# EAGLE library part EPF10K100-IO1 (library mita-akiba)
EPF10K100ARC240 IO pin 6-56: 39 pins
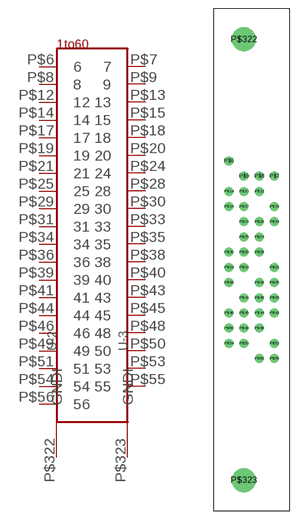
[diagram p13: symbol with the pads of EPF10K100A24IO1; footprint EPF10K100A24IO1]

Designator prefix -; gates -1=EPF10K100A-IO1 -2=GNDINT -3=GNDINT

## EPF10K100-IO1  [EPF10K100A24IO1]
P$6  -1:6
P$7  -1:7
P$8  -1:8
P$9  -1:9
P$12  -1:12
P$13  -1:13
P$14  -1:14
P$15  -1:15
P$17  -1:17
P$18  -1:18
P$19  -1:19
P$20  -1:20
P$21  -1:21
P$24  -1:24
P$25  -1:25
P$28  -1:28
P$29  -1:29
P$30  -1:30
P$31  -1:31
P$33  -1:33
P$34  -1:34
P$35  -1:35
P$36  -1:36
P$38  -1:38
P$39  -1:39
P$40  -1:40
P$41  -1:41
P$43  -1:43
P$44  -1:44
P$45  -1:45
P$46  -1:46
P$48  -1:48
P$49  -1:49
P$50  -1:50
P$51  -1:51
P$53  -1:53
P$54  -1:54
P$55  -1:55
P$56  -1:56
P$322  -2:GNDI  pwr
P$323  -3:GNDI  pwr

## Footprint EPF10K100A24IO1 (pad centres in mm)
FLEX10K100ARC240 User I/O 1st line
drill 0.9 pad 1.5: P$6 -39.37,16.51; P$7 -31.75,13.97; P$8 -34.29,13.97; P$9 -36.83,13.97; P$12 -34.29,11.43; P$13 -36.83,11.43; P$14 -39.37,11.43; P$15 -31.75,8.89; P$17 -36.83,8.89; P$18 -39.37,8.89; P$19 -31.75,6.35; P$20 -34.29,6.35; P$21 -36.83,6.35; P$24 -34.29,3.81; P$25 -36.83,3.81; P$28 -34.29,1.27; P$29 -36.83,1.27; P$30 -39.37,1.27; P$31 -31.75,-1.27; P$33 -36.83,-1.27; P$34 -39.37,-1.27; P$35 -31.75,-3.81; P$36 -34.29,-3.81; P$38 -39.37,-3.81; P$39 -31.75,-6.35; P$40 -34.29,-6.35; P$41 -36.83,-6.35; P$43 -31.75,-8.89; P$44 -34.29,-8.89; P$45 -36.83,-8.89; P$46 -39.37,-8.89; P$48 -34.29,-11.43; P$49 -36.83,-11.43; P$50 -39.37,-11.43; P$51 -31.75,-13.97; P$53 -36.83,-13.97; P$54 -39.37,-13.97; P$55 -31.75,-16.51; P$56 -34.29,-16.51
drill 3 pad 4: P$322 -36.83,36.83; P$323 -36.83,-36.83